# Altium integrated library CC0402MRX5R6BB475.IntLib: 1 symbol
Pins are listed as number, name and electrical type; pins without a type are passive.

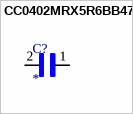
[diagram p0: symbol CC0402MRX5R6BB475]

## CC0402MRX5R6BB475
designator C?
0402 4700000 pF 10 V Â±20 % Tol. X5R Surface Mount Multilayer Ceramic Capacitor; MP: CC0402MRX5R6BB475; Package: None; Price: None; Value: *; Availability: Unavailable
footprint CAPC1005X55N
pins: 1, 2